# Altium footprint library transistor-npn.PCBLIB: 49 footprints (part 1 of 4)
Each footprint in its own frame and in the unit in brackets; x right, y up, seen from the top. Pads: shape width x height; smd on the part's side, far side on the other; paste and mask are expansions set on the pad; w line width, h text height; cw(c..) or ccw(c..) is an arc to the next point about the centre after c.
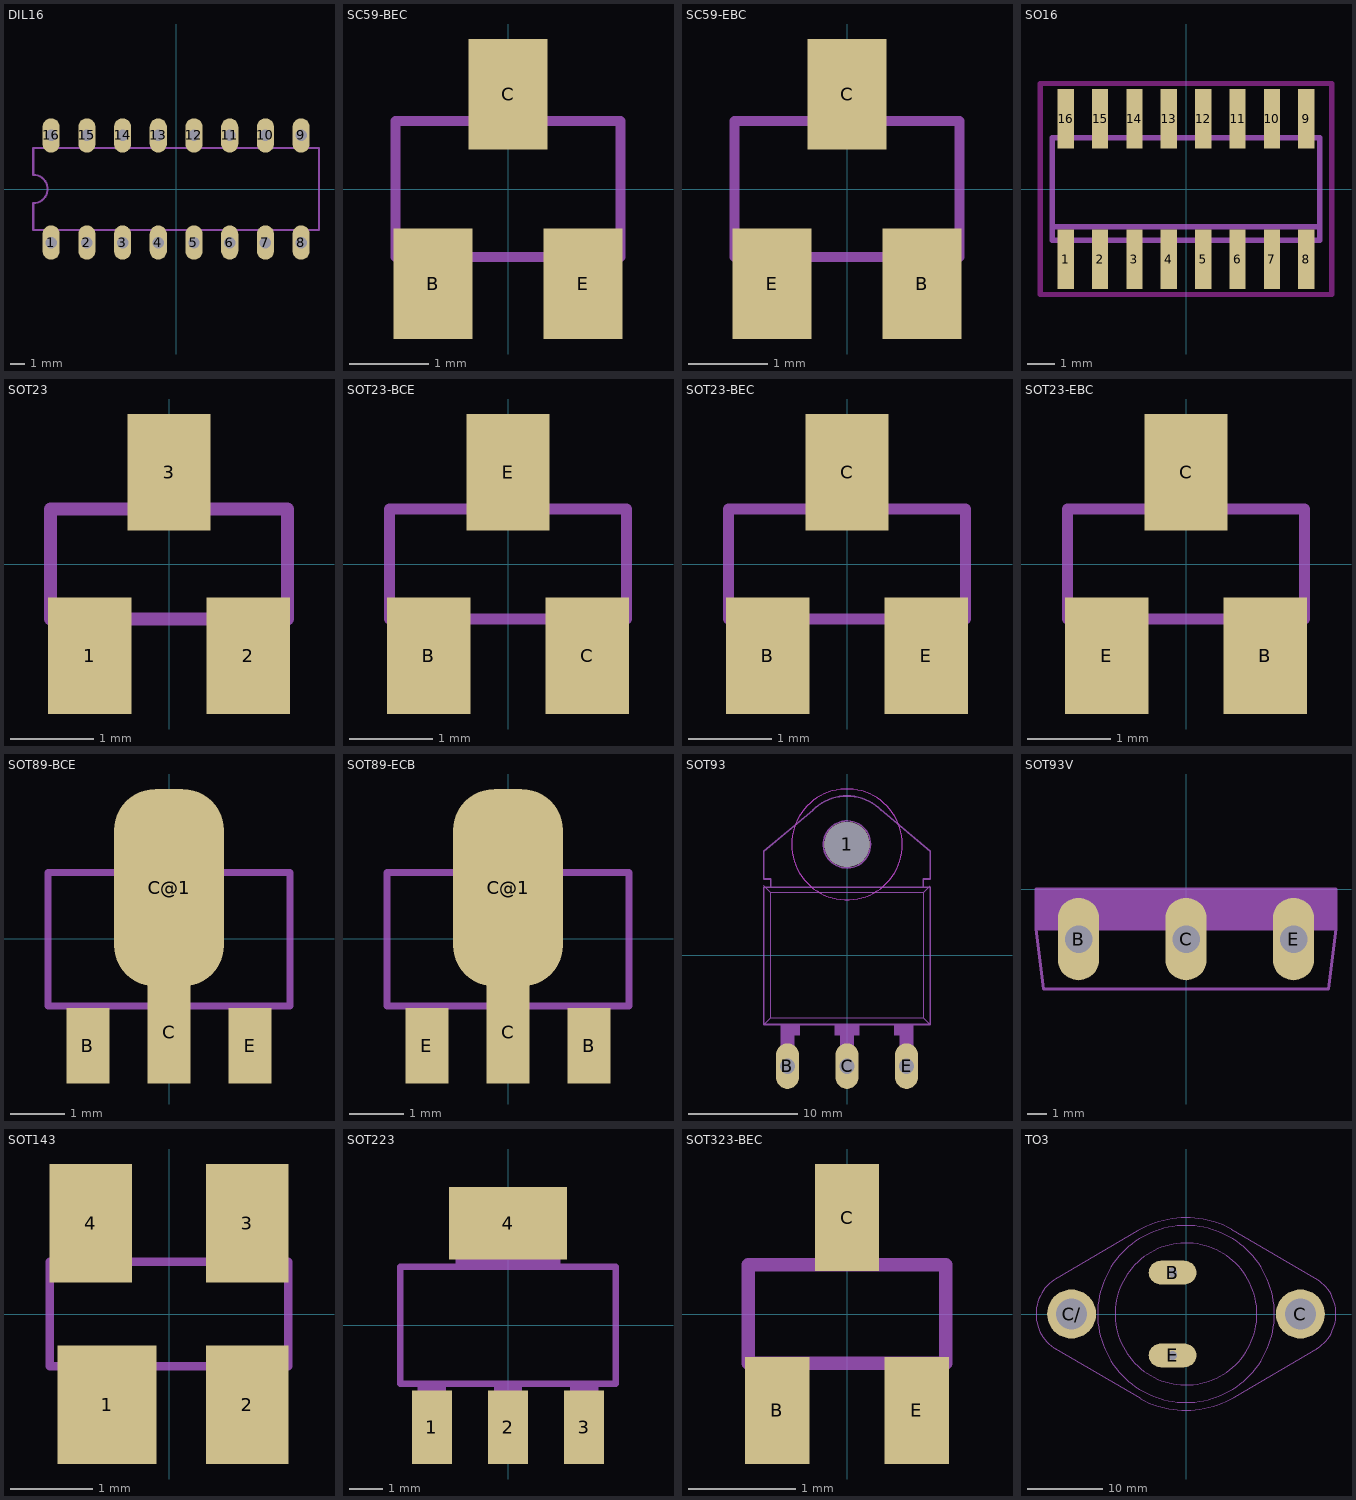
[diagram p0: the footprints below, top view; thin cyan lines are the x and y axes]

## DIL16 [mil]
pads (16):
  oval 48x96 hole 32: 1(-350,-150) 2(-250,-150) 3(-150,-150) 4(-50,-150) 5(50,-150) 6(150,-150) 7(250,-150) 8(350,-150) 9(350,150) 10(250,150) 11(150,150) 12(50,150) 13(-50,150) 14(-150,150) 15(-250,150) 16(-350,150)
Mechanical 2:
  lines w6: -400,-115 400,-115 400,115 -400,115 -400,40 cw(c-400,0) -400,-40 -400,-115

## SC59-BEC [mm]
pads (3):
  rect 1x1.4 smd: B(-0.95,-1.2) C(0,1.2) E(0.95,-1.2)
Mechanical 18:
  rectangle: -0.229,0.911 0.229,1.495
  rectangle: 0.711,-1.495 1.168,-0.911
  rectangle: -1.168,-1.495 -0.711,-0.911
  lines w0.127: -1.422,-0.86 1.422,-0.86 1.422,0.86 -1.422,0.86 -1.422,-0.86

## SC59-EBC [mm]
pads (3):
  rect 1x1.4 smd: B(0.95,-1.2) C(0,1.2) E(-0.95,-1.2)
Mechanical 18:
  rectangle: -0.229,0.911 0.229,1.495
  rectangle: 0.711,-1.495 1.168,-0.911
  rectangle: -1.168,-1.495 -0.711,-0.911
  lines w0.127: -1.422,-0.86 1.422,-0.86 1.422,0.86 -1.422,0.86 -1.422,-0.86

## SO16 [mil]
pads (16):
  rect 23.62x86.61 smd: 1(-175,-102.36) 2(-125,-102.36) 3(-75,-102.36) 4(-25,-102.36) 5(25,-102.36) 6(75,-102.36) 7(125,-102.36) 8(175,-102.36) 9(175,102.36) 10(125,102.36) 11(75,102.36) 12(25,102.36) 13(-25,102.36) 14(-75,102.36) 15(-125,102.36) 16(-175,102.36)
Keep-Out Layer:
  lines w7.87: -212.4,-153.54 212.4,-153.54 212.4,153.54 -212.4,153.54 -212.4,-153.54
Mechanical 18:
  rectangle: -184.65,-122.05 -165.35,-78.74
  rectangle: -134.65,-122.05 -115.35,-78.74
  rectangle: -84.65,-122.05 -65.35,-78.74
  rectangle: -34.65,-122.05 -15.35,-78.74
  rectangle: 65.35,78.74 84.65,122.05
  rectangle: 15.35,78.74 34.65,122.05
  rectangle: -34.65,78.74 -15.35,122.05
  rectangle: -84.65,78.74 -65.35,122.05
  rectangle: 15.35,-122.05 34.65,-78.74
  rectangle: 65.35,-122.05 84.65,-78.74
  rectangle: 115.35,-122.05 134.65,-78.74
  rectangle: 165.35,-122.05 184.65,-78.74
  rectangle: 165.35,78.74 184.65,122.05
  rectangle: 115.35,78.74 134.65,122.05
  rectangle: -134.65,78.74 -115.35,122.05
  rectangle: -184.65,78.74 -165.35,122.05
  lines w8: -194.49,-55.12 -194.49,-74.8 194.49,-74.8 194.49,-55.12 ; -194.49,-55.12 -194.49,74.8 194.49,74.8 194.49,-55.12 ; -194.49,-55.12 194.49,-55.12

## SOT23 [mm]
pads (3):
  rect 1x1.4 smd: 1(-0.95,-1.1) 2(0.95,-1.1) 3(0,1.1)
Mechanical 18:
  rectangle: -0.229,0.711 0.229,1.295
  rectangle: 0.711,-1.295 1.168,-0.711
  rectangle: -1.168,-1.295 -0.711,-0.711
  lines w0.152: -1.422,-0.66 1.422,-0.66 1.422,0.66 -1.422,0.66 -1.422,-0.66

## SOT23-BCE [mm]
pads (3):
  rect 1x1.4 smd: B(-0.95,-1.1) C(0.95,-1.1) E(0,1.1)
Mechanical 18:
  rectangle: -0.229,0.711 0.229,1.295
  rectangle: 0.711,-1.295 1.168,-0.711
  rectangle: -1.168,-1.295 -0.711,-0.711
  lines w0.127: -1.422,-0.66 1.422,-0.66 1.422,0.66 -1.422,0.66 -1.422,-0.66

## SOT23-BEC [mm]
pads (3):
  rect 1x1.4 smd: B(-0.95,-1.1) C(0,1.1) E(0.95,-1.1)
Mechanical 18:
  rectangle: -0.229,0.711 0.229,1.295
  rectangle: 0.711,-1.295 1.168,-0.711
  rectangle: -1.168,-1.295 -0.711,-0.711
  lines w0.127: -1.422,-0.66 1.422,-0.66 1.422,0.66 -1.422,0.66 -1.422,-0.66

## SOT23-EBC [mm]
pads (3):
  rect 1x1.4 smd: B(0.95,-1.1) C(0,1.1) E(-0.95,-1.1)
Mechanical 18:
  rectangle: -0.229,0.711 0.229,1.295
  rectangle: 0.711,-1.295 1.168,-0.711
  rectangle: -1.168,-1.295 -0.711,-0.711
  lines w0.127: -1.422,-0.66 1.422,-0.66 1.422,0.66 -1.422,0.66 -1.422,-0.66

## SOT89-BCE [mil]
pads (4):
  rect 31.5x55.12 smd: B(-59.02,-77.99) E(59.02,-77.99)
  rect 31.5x74.8 smd paste-37.4 mask-37.4: C(0,-67.99)
  rrect75% 80x143.7 smd: C@1(0,37.01)
Top Paste:
  rectangle: -15.75,-105.51 15.75,-50.39
Top Solder:
  rectangle: -19.69,-109.45 19.69,-46.46
Mechanical 18:
  rectangle: -68,-83 -50,-50
  rectangle: 50,-83 68,-50
  rectangle: -11,-83 11,-50
  region: 0,0 10,0 10,10 0,10
  lines w5: -87.99,-49.02 87.99,-49.02 87.99,47.99 -87.99,47.99 -87.99,-49.02
  lines w7.87: -31,51 31,51 31,62 14,79 -14,79 -31,62 -31,51

## SOT89-ECB [mil]
pads (4):
  rect 31.5x55.12 smd: B(59.02,-77.99) E(-59.02,-77.99)
  rect 31.5x74.8 smd paste-37.4 mask-37.4: C(0,-67.99)
  rrect75% 80x143.7 smd: C@1(0,37.01)
Top Paste:
  rectangle: -15.75,-105.51 15.75,-50.39
Top Solder:
  rectangle: -19.69,-109.45 19.69,-46.46
Mechanical 18:
  rectangle: -68,-83 -50,-50
  rectangle: 50,-83 68,-50
  rectangle: -11,-83 11,-50
  region: 0,0 10,0 10,10 0,10
  lines w5: -87.99,-49.02 87.99,-49.02 87.99,47.99 -87.99,47.99 -87.99,-49.02
  lines w7.87: -31,51 31,51 31,62 14,79 -14,79 -31,62 -31,51

## SOT93 [mil]
pads (4):
  round 162 hole 162: 1(0,400)
  oval 82.5x165 hole 55: B(-215,-400) C(0,-400) E(215,-400)
Mechanical 2:
  circle w6: c0,400 r85
  rectangle: -240,-290 -170,-250
  rectangle: 170,-290 240,-250
  rectangle: -45,-290 45,-250
  rectangle: -240,-320 -190,-250
  rectangle: -25,-320 25,-250
  rectangle: 190,-320 240,-250
  lines w2: -275,-225 275,-225 275,225 -275,225 -275,-225
  lines w6: -123.74,523.74 cw(c0.01,400) 0,575 cw(c-0.01,400) 123.74,523.74 ; -123,524 -300,375 -300,275 -275,275 -275,245 ; 123,525 300,375 300,275 275,275 275,245 ; -275,245 -300,245 -300,-250 300,-250 300,245 275,245 ; -275,245 275,245
Mechanical 11 keep-out:
  circle w0: c0,400 r200
Mechanical 12:
  circle w0: c0,400 r200
Mechanical 18:
  rectangle: -240,-405 -190,-320
  rectangle: -25,-405 25,-320
  rectangle: 190,-405 240,-320
  lines w2: -300,-250 -275,-225 ; -300,250 -275,225 ; 275,-225 300,-250 ; 275,225 300,250

## SOT93V [mil]
pads (3):
  oval 82.5x165 hole 55: B(-215,-100) C(0,-100) E(215,-100)
Mechanical 2:
  lines w6: -135,-80 -80,-80 ; 80,-80 135,-80 ; -300,-80 -300,0 300,0 300,-80 285,-200 -285,-200 -300,-80
Mechanical 18:
  rectangle: -300,-80 300,0
  lines w6: -300,-80 -135,-80 ; -80,-80 80,-80 ; 135,-80 300,-80

## SOT143 [mm]
pads (4):
  rect 1.2x1.44 smd: 1(-0.75,-1.1)
  rect 1x1.44 smd: 2(0.95,-1.1) 3(0.95,1.1) 4(-0.95,1.1)
Mechanical 18:
  rectangle: 0.737,-1.321 1.194,-0.635
  rectangle: 0.711,0.635 1.168,1.321
  rectangle: -1.143,0.635 -0.686,1.321
  rectangle: -1.194,-1.321 -0.305,-0.635
  lines w0.1: -1.448,-0.635 1.448,-0.635 1.448,0.635 -1.448,0.635 -1.448,-0.635

## SOT223 [mil]
pads (4):
  rect 48x88 smd: 1(-91,-122) 2(0,-122) 3(91,-122)
  rect 141.73x86.61 smd: 4(0,122.01)
Mechanical 2:
  lines w8: -129,-70 129,-70 129,70 -129,70 -129,-70
Mechanical 18:
  rectangle: -63,71 63,144
  rectangle: -17,-144 17,-71
  rectangle: -108,-144 -74,-71
  rectangle: 74,-144 108,-71
  rectangle: -63,71 63,144
  rectangle: -17,-144 17,-71
  rectangle: -108,-144 -74,-71
  rectangle: 74,-144 108,-71

## SOT323-BEC [mm]
pads (3):
  rect 0.6x1 smd: B(-0.65,-0.9) C(0,0.9) E(0.65,-0.9)
Mechanical 18:
  rectangle: -0.8,-1.1 -0.5,-0.5
  rectangle: 0.5,-1.1 0.8,-0.5
  rectangle: -0.15,0.5 0.15,1.1
  lines w0.127: -0.923,-0.461 0.923,-0.461 0.923,0.461 -0.923,0.461 -0.923,-0.461

## TO3 [mil]
pads (4):
  oval 248x124 hole 47: B(-70,215) E(-70,-215)
  round 255 hole 162: C(595,0) C/(-595,0)
Mechanical 2:
  circle w6: c0,0 r369
  circle w2: c0,0 r460
  lines w6: -680,180 -250,433 ; -679,-181 -234,-442 ; -675.41,-183.35 cw(c-567,0) -780,0 cw(c-567,0) -672.94,184.78 ; -250.86,432.52 cw(c-0.01,0) 0,500 cw(c0.01,-0.01) 235.3,441.18 ; -235.3,-441.18 ccw(c-0.01,0.01) 0,-500 ccw(c0.01,0) 250.86,-432.52 ; 235,441 684,178 ; 251,-433 684,-178 ; 682.54,-178.94 ccw(c567,0) 780,0 ccw(c567,0) 682.54,178.94
Mechanical 18:
  circle w6: c595,0 r85
  circle w6: c-595,0 r85